# Altium footprint library PcbLib1.PcbLib: 14 footprints
Each footprint in its own frame and in the unit in brackets; x right, y up, seen from the top. Pads: shape width x height; smd on the part's side, far side on the other; paste and mask are expansions set on the pad; w line width, h text height; cw(c..) or ccw(c..) is an arc to the next point about the centre after c.
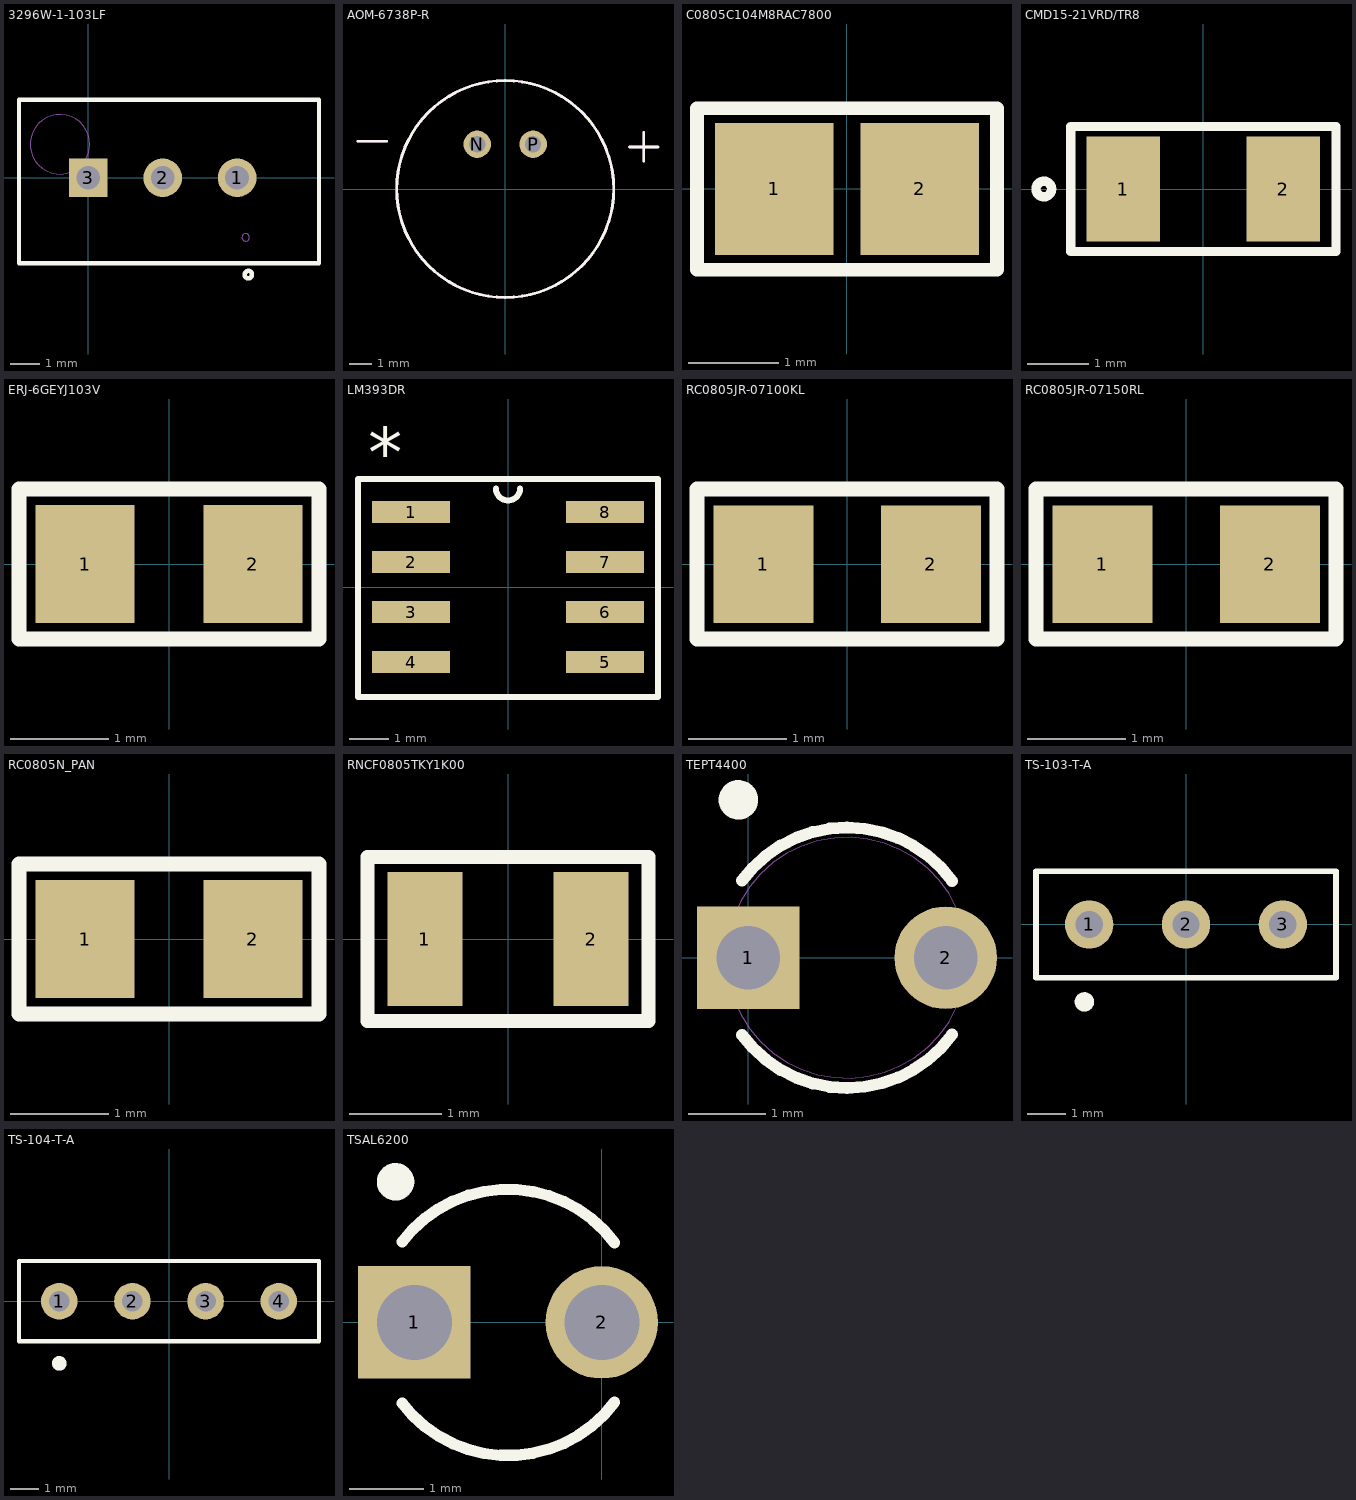
[diagram p0: the footprints below, top view; thin cyan lines are the x and y axes]

## 3296W-1-103LF [mil]
pads (3):
  round 52 / inner round 60 / far side round 52 hole 32 paste-26 mask+0: 1(200,0) 2(100,0)
  rect 52x52 / inner round 60 / far side rect 52x52 hole 32 paste-26 mask+0: 3(0,0)
Top Overlay:
  circle w6: c215,-130 r5
  lines w6: -93,-115 310,-115 310,105 -93,105 -93,-115
Mechanical 13:
  circle w0: c211.5,-80 r5
  circle w0: c-38,45 r40
3D body "POT_3296W.step": height 377.99, standoff -250, extent -77.01,-100 297.99,95

## AOM-6738P-R [mm]
height 6.9
pads (2):
  round 1.228 hole 0.72: N(-1.25,2) P(1.25,2)
Top Overlay:
  circle w0.127: c0,0 r4.85
  lines w0.127: -6.58,2.135 -5.31,2.135 ; 5.56,1.885 6.83,1.885 ; 6.195,1.25 6.195,2.52
Mechanical 13:
  circle w0.127: c0,0 r4.85
  lines w0.127: -6.58,2.135 -5.31,2.135 ; 5.56,1.885 6.83,1.885 ; 6.195,1.25 6.195,2.52
3D body "AOM-6738P-R.step": height 6.97, standoff -4.73, extent -4.85,-4.858 4.85,4.842

## C0805C104M8RAC7800 [mm]
pads (2):
  rect 1.306x1.45 smd paste+0 mask+0: 1(-0.803,0) 2(0.803,0)
Top Overlay:
  lines w0.152: -1.651,-0.889 -1.651,0.889 1.651,0.889 1.651,-0.889 -1.651,-0.889
3D body "CAPC220145_88N_KEM.step": height 0.88, standoff 0, extent -1.1,-0.725 1.1,0.725

## CMD15-21VRD/TR8 [mil]
pads (2):
  rect 47x67 smd paste+0 mask+0: 1(-51.18,0) 2(51.18,0)
Top Overlay:
  circle w6: c-102.18,0 r5
  lines w6: -85,-40 -85,40 85,40 85,-40 -85,-40
3D body "SMD_0805LED_YEL.STEP": height 43.31, standoff 0, extent -44.76,-24.61 34.76,24.61

## ERJ-6GEYJ103V [mm]
pads (2):
  rect 1.006x1.2 smd paste+0 mask+0: 1(-0.853,0) 2(0.853,0)
Top Overlay:
  lines w0.152: -1.524,-0.762 1.524,-0.762 1.524,0.762 -1.524,0.762 -1.524,-0.762
3D body "RC0805N_PAN.step": height 0.71, standoff 0, extent -1,-0.6 1,0.6

## LM393DR [mil]
pads (8):
  rect 78x22 smd paste-39 mask-39: 1(-97,75) 2(-97,25) 3(-97,-25) 4(-97,-75) 5(97,-75) 6(97,-25) 7(97,25) 8(97,75)
Top Overlay:
  lines w6: -12,98.5 ccw(c0,98.5) 12,98.5 ; -150,-110 150,-110 150,108.11 -150,108.11 -150,-110
  text "*" at -140,110 h50
3D body "D8.step": height 69.09, standoff 0, extent -122.01,-98.5 122.01,98.5

## RC0805JR-07100KL [mil]
pads (2):
  rect 40x47 smd paste+0 mask+0: 1(-33.5,0) 2(33.5,0)
Top Overlay:
  lines w6: -60,-30 -60,30 60,30 60,-30 -60,-30
3D body "RC0805N_YAG.step": height 27.99, standoff 0, extent -39.49,-23.5 39.49,23.5

## RC0805JR-07150RL [mil]
pads (2):
  rect 40x47 smd paste+0 mask+0: 1(-33.5,0) 2(33.5,0)
Top Overlay:
  lines w6: -60,-30 -60,30 60,30 60,-30 -60,-30
3D body "RC0805N_YAG.step": height 27.99, standoff 0, extent -39.49,-23.5 39.49,23.5

## RC0805N_PAN [mm]
pads (2):
  rect 1.006x1.2 smd paste+0 mask+0: 1(-0.853,0) 2(0.853,0)
Top Overlay:
  lines w0.152: -1.524,-0.762 1.524,-0.762 1.524,0.762 -1.524,0.762 -1.524,-0.762
3D body "RC0805N_PAN.step": height 0.71, standoff 0, extent -1,-0.6 1,0.6

## RNCF0805TKY1K00 [mil]
pads (2):
  rect 32x57 smd paste+0 mask+0: 1(-35.5,0) 2(35.5,0)
Top Overlay:
  lines w6: -60,-35 60,-35 60,35 -60,35 -60,-35
3D body "STA_RNCF0805_STP.step": height 25.98, standoff 0, extent -43.5,-28.5 43.5,28.5

## TEPT4400 [mil]
pads (2):
  rect 52x52 / inner round 60 / far side rect 52x52 hole 32 paste-26 mask+0: 1(0,0)
  round 52 / inner round 60 / far side round 52 hole 32 paste-26 mask+0: 2(100,0)
Top Overlay:
  circle w10: c-5,80 r5
  lines w6: -3.17,-39.1 ccw(c50,0) 103.27,-38.96 ; -3.17,39.1 cw(c50,0) 103.27,38.96
Mechanical 13:
  circle w0: c50,0 r61
3D body "User Library-led_3mm_clear.STEP": height 144.4, standoff -133.33, extent -130.84,-308.88 239.58,113.29

## TS-103-T-A [mil]
pads (3):
  round 50 / inner round 60 / far side round 50 hole 28 paste-25 mask+0: 1(-100,0) 2(0,0) 3(100,0)
Top Overlay:
  circle w10: c-105,-80 r5
  lines w6: -155,-55 -155,55 155,55 155,-55 -155,-55
Mechanical 13:
  circle w0: c-100,0 r10
3D body "TS-103-T-A.step": height 326.5, standoff -150.5, extent -154,-50 154,50

## TS-104-T-A [mil]
pads (4):
  round 50 / inner round 60 / far side round 50 hole 28 paste-25 mask+0: 1(-150,0) 2(-50,0) 3(50,0) 4(150,0)
Top Overlay:
  circle w10: c-150,-85 r5
  lines w6: -205,-55 -205,55 205,55 205,-55 -205,-55
Mechanical 13:
  circle w0: c-150,0 r10
3D body "TS-104-T-A.step": height 326.5, standoff -150.5, extent -204,-50 204,50

## TSAL6200 [mil]
pads (2):
  rect 60x60 / inner round 60 / far side rect 60x60 hole 40 paste-30 mask-30: 1(-100,0)
  round 60 hole 40 paste-30 mask-30: 2(0,0)
Top Overlay:
  circle w10: c-110,75 r5
  lines w6: -106.42,-43.1 ccw(c-50,0) 6.83,-42.55 ; -106.42,43.1 cw(c-50,0) 6.83,42.55
3D body "LED Vishay TSAL6200.stp": height 124.42, standoff -107.77, extent -162.14,-517.4 50,20